# EAGLE library part LMV358SG-13 (library Diodes_Inc_By_element14_Batch_1)
BRIGHTNESS LED
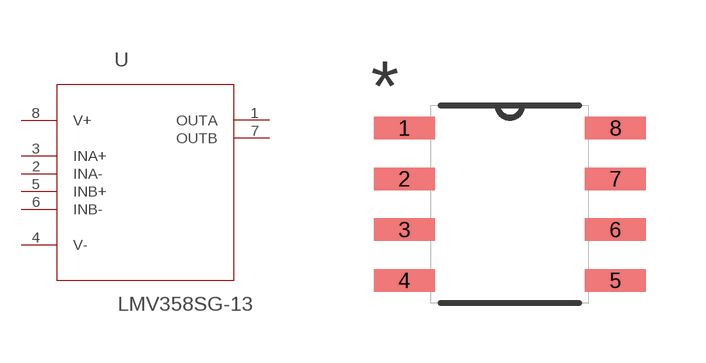
[diagram p35: symbol with the pads of SOIC127P600X175-8N; footprint SOIC127P600X175-8N]

Designator prefix U

## LMV358SG-13 (MPN: LMV358SG-13; OC_FARNELL: 1904047; OC_NEWARK: 55T3177; PACKAGE: SOP-8; SUPPLIER: DIODES INC.)  [SOIC127P600X175-8N]
1  OUTA  out
2  INA-  in
3  INA+  in
4  V-  pwr
5  INB+  in
6  INB-  in
7  OUTB  out
8  V+  pwr

## Footprint SOIC127P600X175-8N (pad centres in mm)
smd 1.524 x 0.559: 1 -2.642,1.905; 2 -2.642,0.635; 3 -2.642,-0.635; 4 -2.642,-1.905; 5 2.642,-1.905; 6 2.642,-0.635; 7 2.642,0.635; 8 2.642,1.905